# Altium schematic symbol library LTST-C190KGKT.SchLib: 1 symbol
Pins are listed as number, name and electrical type; pins without a type are passive.

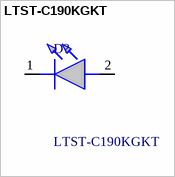
[diagram p0: symbol LTST-C190KGKT]

## LTST-C190KGKT
designator D?
Lite-On LTST-C190KGKT, 571 nm Green LED, 1608 (0603) SMD package; Geometry.Height: 0.8mm; Mouser Part Number: 859-LTST-C190KGKT; Mouser Price/Stock: https://www.mouser.co.uk/ProductDetail/Lite-On/LTST-C190KGKT?qs=205qCy6M2Q%252BAdcgwUZktqw%3D%3D; Manufacturer_Name: Lite-On; Manufacturer_Part_Number: LTST-C190KGKT; Datasheet Link: *
footprint LEDC1608X80N
pins: 1 K, 2 A